# Altium footprint library SIM800C.PcbLib: 1 footprints
Each footprint in its own frame and in the unit in brackets; x right, y up, seen from the top. Pads: shape width x height; smd on the part's side, far side on the other; paste and mask are expansions set on the pad; w line width, h text height; cw(c..) or ccw(c..) is an arc to the next point about the centre after c.
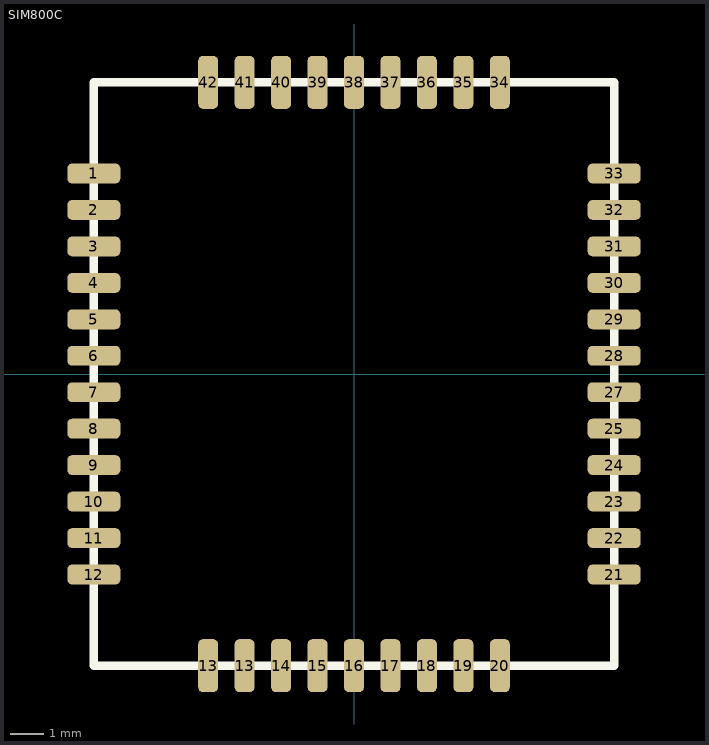
[diagram p0: the footprint, top view; thin cyan lines are the x and y axes]

## SIM800C [mm] "SIM800C"
pads (42):
  rrect50% 1.6x0.6 smd: 1(-7.85,6.05) 2(-7.85,4.95) 3(-7.85,3.85) 4(-7.85,2.75) 5(-7.85,1.65) 6(-7.85,0.55) 7(-7.85,-0.55) 8(-7.85,-1.65) 9(-7.85,-2.75) 10(-7.85,-3.85) 11(-7.85,-4.95) 12(-7.85,-6.05) 21(7.85,-6.05) 22(7.85,-4.95) 23(7.85,-3.85) 24(7.85,-2.75) 25(7.85,-1.65) 27(7.85,-0.55) 28(7.85,0.55) 29(7.85,1.65) 30(7.85,2.75) 31(7.85,3.85) 32(7.85,4.95) 33(7.85,6.05)
  rrect50% 0.6x1.6 smd: 13(-4.4,-8.8) 13(-3.3,-8.8) 14(-2.2,-8.8) 15(-1.1,-8.8) 16(0,-8.8) 17(1.1,-8.8) 18(2.2,-8.8) 19(3.3,-8.8) 20(4.4,-8.8) 34(4.4,8.8) 35(3.3,8.8) 36(2.2,8.8) 37(1.1,8.8) 38(0,8.8) 39(-1.1,8.8) 40(-2.2,8.8) 41(-3.3,8.8) 42(-4.4,8.8)
Top Overlay:
  lines w0.254: -7.85,-8.8 7.85,-8.8 7.85,8.8 -7.85,8.8 -7.85,-8.8
3D body "SIM800C-1.STEP": height 2.32, standoff -0.02, extent -7.85,-8.8 7.85,8.8